# EAGLE library part CS4265 (library NewSDR)
104 dB, 24-Bit, 192 kHz Stereo Codec
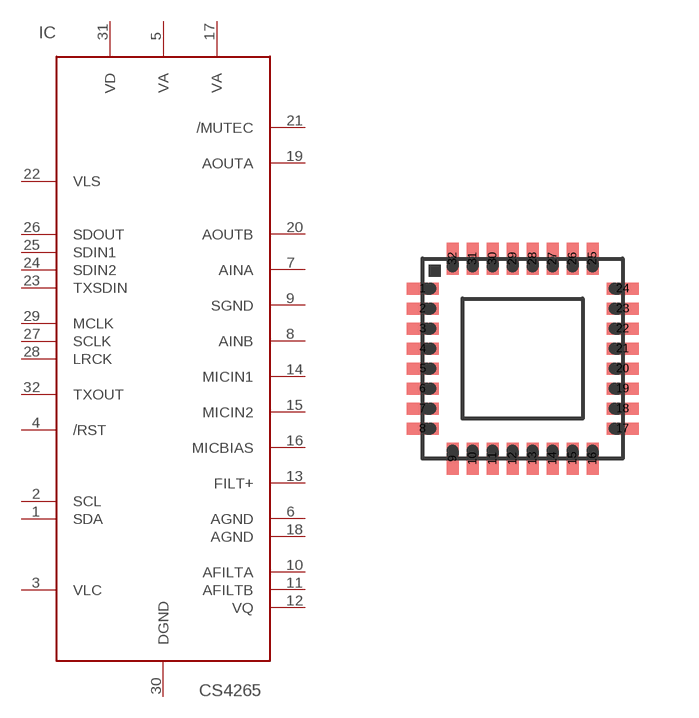
[diagram p32: symbol with the pads of QFN32; footprint QFN32]

Designator prefix IC

## CS4265  [QFN32]
1  SDA  in
2  SCL  in
3  VLC  pwr
4  /RST  in
5  VA  pwr
6  AGND  pwr
7  AINA  out
8  AINB  pwr
9  SGND  pwr
10  AFILTA  pas
11  AFILTB  pas
12  VQ  pas
13  FILT+  pas
14  MICIN1  out
15  MICIN2  out
16  MICBIAS  out
17  VA  pwr
18  AGND  pwr
19  AOUTA  out
20  AOUTB  out
21  /MUTEC  out
22  VLS  pwr
23  TXSDIN  in
24  SDIN2  in
25  SDIN1  in
26  SDOUT  out
27  SCLK  in
28  LRCK  in
29  MCLK  in
30  DGND  pwr
31  VD  pwr
32  TXOUT  out

## Footprint QFN32 (pad centres in mm)
QFN32 Package
smd 0.8 x 0.3: 1 -2.5,1.75; 2 -2.5,1.25; 3 -2.5,0.75; 4 -2.5,0.25; 5 -2.5,-0.25; 6 -2.5,-0.75; 7 -2.5,-1.25; 8 -2.5,-1.75; 17 2.5,-1.75; 18 2.5,-1.25; 19 2.5,-0.75; 20 2.5,-0.25; 21 2.5,0.25; 22 2.5,0.75; 23 2.5,1.25; 24 2.5,1.75
smd 0.3 x 0.8: 9 -1.75,-2.5; 10 -1.25,-2.5; 11 -0.75,-2.5; 12 -0.25,-2.5; 13 0.25,-2.5; 14 0.75,-2.5; 15 1.25,-2.5; 16 1.75,-2.5; 25 1.75,2.5; 26 1.25,2.5; 27 0.75,2.5; 28 0.25,2.5; 29 -0.25,2.5; 30 -0.75,2.5; 31 -1.25,2.5; 32 -1.75,2.5